# Altium footprint library CommonPcb.PcbLib: 194 footprints (part 3 of 13)
Each footprint in its own frame and in the unit in brackets; x right, y up, seen from the top. Pads: shape width x height; smd on the part's side, far side on the other; paste and mask are expansions set on the pad; w line width, h text height; cw(c..) or ccw(c..) is an arc to the next point about the centre after c.
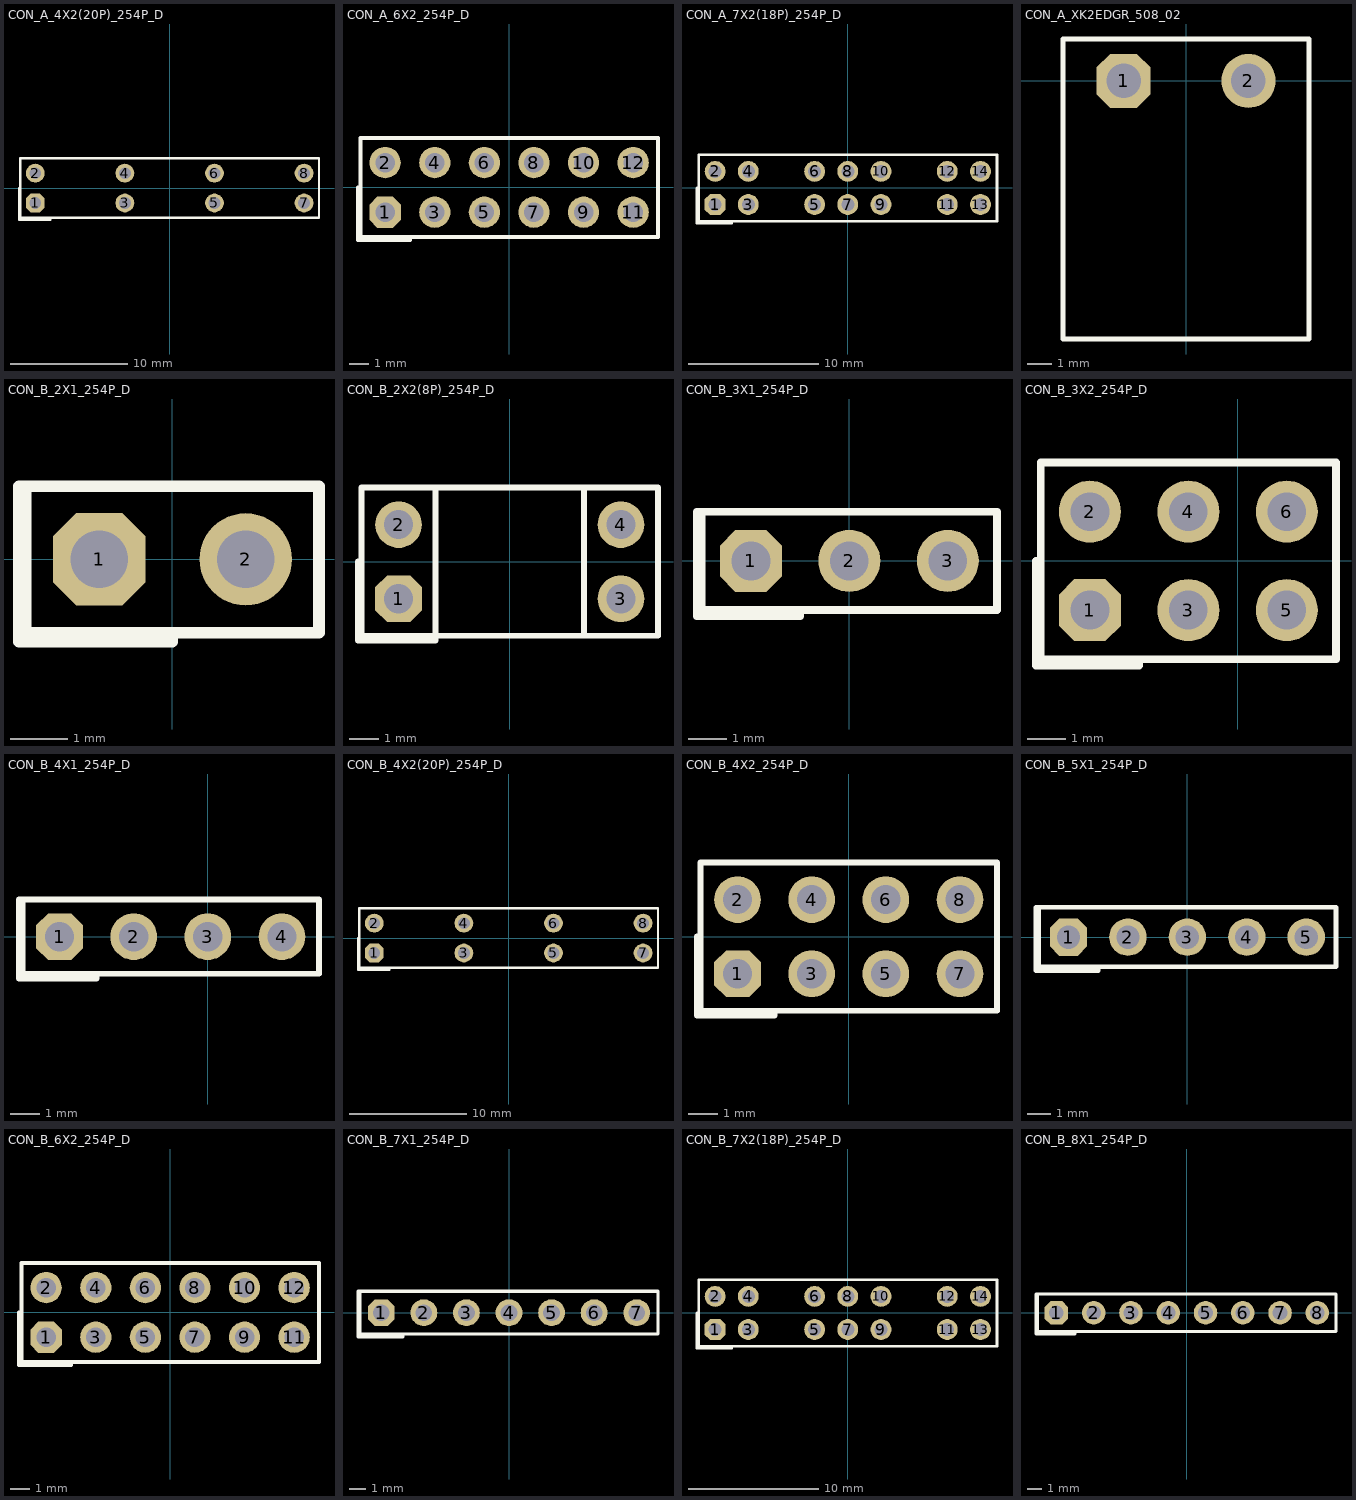
[diagram p2: the footprints below, top view; thin cyan lines are the x and y axes]

## CON_A_4X2(20P)_254P_D [mm] "Audia Series 460 25"
pads (8):
  oct 1.6x1.6 hole 1 mask+0.1: 1(-11.43,-1.27)
  round 1.6 hole 1 mask+0.1: 2(-11.43,1.27) 3(-3.81,-1.27) 4(-3.81,1.27) 5(3.81,-1.27) 6(3.81,1.27) 7(11.43,-1.27) 8(11.43,1.27)
Top Overlay:
  lines w0.2: -12.7,0 -12.82,0 -12.82,-2.54 -12.82,-2.7 -10.16,-2.7 -10.16,-2.54 ; -12.7,-2.54 12.7,-2.54 12.7,2.54 -12.7,2.54 -12.7,-2.54
3D body: height 5.7, standoff 0, extent -12.7,-2.54 12.7,2.54

## CON_A_6X2_254P_D [mm] "Audia Series 460 25"
pads (12):
  oct 1.6x1.6 hole 1 mask+0.1: 1(-6.35,-1.27)
  round 1.6 hole 1 mask+0.1: 2(-6.35,1.27) 3(-3.81,-1.27) 4(-3.81,1.27) 5(-1.27,-1.27) 6(-1.27,1.27) 7(1.27,-1.27) 8(1.27,1.27) 9(3.81,-1.27) 10(3.81,1.27) 11(6.35,-1.27) 12(6.35,1.27)
Top Overlay:
  lines w0.2: -7.62,0 -7.74,0 -7.74,-2.54 -7.74,-2.7 -5.08,-2.7 -5.08,-2.54 ; -7.62,-2.54 -7.62,2.54 7.62,2.54 7.62,-2.54 -7.62,-2.54
3D body: height 5.7, standoff 0, extent -7.62,-2.54 7.62,2.54

## CON_A_7X2(18P)_254P_D [mm] "Audia Series 460 25"
pads (14):
  oct 1.6x1.6 hole 1 mask+0.1: 1(-10.16,-1.27)
  round 1.6 hole 1 mask+0.1: 2(-10.16,1.27) 3(-7.62,-1.27) 4(-7.62,1.27) 5(-2.54,-1.27) 6(-2.54,1.27) 7(0,-1.27) 8(0,1.27) 9(2.54,-1.27) 10(2.54,1.27) 11(7.62,-1.27) 12(7.62,1.27) 13(10.16,-1.27) 14(10.16,1.27)
Top Overlay:
  lines w0.2: -11.43,0 -11.55,0 -11.55,-2.54 -11.55,-2.7 -8.89,-2.7 -8.89,-2.54 ; -11.43,-2.54 11.43,-2.54 11.43,2.54 -11.43,2.54 -11.43,-2.54
3D body: height 0, standoff 0, extent -11.429,-2.539 11.429,2.539

## CON_A_XK2EDGR_508_02 [mm] "XK2EDGR-5.08-02"
pads (2):
  oct 2.2x2.2 hole 1.4 mask+0.1: 1(-2.54,0)
  round 2.2 hole 1.4 mask+0.1: 2(2.54,0)
Top Overlay:
  lines w0.2: -5,-10.5 -5,1.7 5,1.7 5,-10.5 -5,-10.5
3D body: height 0, standoff 0, extent -4.999,-10.499 4.999,1.699

## CON_B_2X1_254P_D [mm] "Audia Series 460 25"
pads (2):
  oct 1.6x1.6 hole 1 mask+0.1: 1(-1.27,0)
  round 1.6 hole 1 mask+0.1: 2(1.27,0)
Top Overlay:
  lines w0.2: 0,-1.27 0,-1.43 -2.66,-1.43 -2.66,-1.27 -2.66,1.27 -2.54,1.27 ; -2.54,1.27 -2.54,-1.27 2.54,-1.27 2.54,1.27 -2.54,1.27
3D body: height 0, standoff 0, extent -2.539,-1.27 2.54,1.27

## CON_B_2X2(8P)_254P_D [mm] "Audia Series 47Y 25"
pads (4):
  oct 1.6x1.6 hole 1 mask+0.1: 1(-3.81,-1.27)
  round 1.6 hole 1 mask+0.1: 2(-3.81,1.27) 3(3.81,-1.27) 4(3.81,1.27)
Top Overlay:
  lines w0.2: -5.08,0 -5.2,0 -5.2,-2.54 -5.2,-2.7 -2.54,-2.7 -2.54,-2.54 -2.54,2.54 ; 2.54,-2.54 2.54,2.54 ; -5.08,-2.54 5.08,-2.54 5.08,2.54 -5.08,2.54 -5.08,-2.54
3D body: height 5.7, standoff 0, extent -5.08,-2.54 5.08,2.54

## CON_B_3X1_254P_D [mm] "Audia Series 460 25"
pads (3):
  oct 1.6x1.6 hole 1 mask+0.1: 1(-2.54,0)
  round 1.6 hole 1 mask+0.1: 2(0,0) 3(2.54,0)
Top Overlay:
  lines w0.2: -1.27,-1.27 -1.27,-1.43 -3.93,-1.43 -3.93,-1.27 -3.93,1.27 -3.81,1.27 ; -3.81,1.27 -3.81,-1.27 3.81,-1.27 3.81,1.27 -3.81,1.27
3D body: height 0, standoff 0, extent -3.809,-1.27 3.81,1.27

## CON_B_3X2_254P_D [mm] "Audia Series 47Y 25"
pads (6):
  oct 1.6x1.6 hole 1 mask+0.1: 1(-3.81,-1.27)
  round 1.6 hole 1 mask+0.1: 2(-3.81,1.27) 3(-1.27,-1.27) 4(-1.27,1.27) 5(1.27,-1.27) 6(1.27,1.27)
Top Overlay:
  lines w0.2: -5.08,0 -5.2,0 -5.2,-2.54 -5.2,-2.7 -2.54,-2.7 -2.54,-2.54 ; -5.08,-2.54 2.54,-2.54 2.54,2.54 -5.08,2.54 -5.08,-2.54
3D body: height 5.7, standoff 0, extent -5.08,-2.54 2.54,2.54

## CON_B_4X1_254P_D [mm] "Audia Series 47Y 25"
pads (4):
  oct 1.6x1.6 hole 1 mask+0.1: 1(-5.08,0)
  round 1.6 hole 1 mask+0.1: 2(-2.54,0) 3(0,0) 4(2.54,0)
Top Overlay:
  lines w0.2: -3.81,-1.27 -3.81,-1.43 -6.47,-1.43 -6.47,-1.27 -6.47,1.27 -6.35,1.27 ; -6.35,1.27 3.81,1.27 3.81,-1.27 -6.35,-1.27 -6.35,1.27
3D body: height 0, standoff 0, extent -6.349,-1.27 3.81,1.27

## CON_B_4X2(20P)_254P_D [mm] "Audia Series 47Y 25"
pads (8):
  oct 1.6x1.6 hole 1 mask+0.1: 1(-11.43,-1.27)
  round 1.6 hole 1 mask+0.1: 2(-11.43,1.27) 3(-3.81,-1.27) 4(-3.81,1.27) 5(3.81,-1.27) 6(3.81,1.27) 7(11.43,-1.27) 8(11.43,1.27)
Top Overlay:
  lines w0.2: -12.7,0 -12.82,0 -12.82,-2.54 -12.82,-2.7 -10.16,-2.7 -10.16,-2.54 ; -12.7,-2.54 12.7,-2.54 12.7,2.54 -12.7,2.54 -12.7,-2.54
3D body: height 5.7, standoff 0, extent -12.7,-2.54 12.7,2.54

## CON_B_4X2_254P_D [mm] "Audia Series 47Y 25"
pads (8):
  oct 1.6x1.6 hole 1 mask+0.1: 1(-3.81,-1.27)
  round 1.6 hole 1 mask+0.1: 2(-3.81,1.27) 3(-1.27,-1.27) 4(-1.27,1.27) 5(1.27,-1.27) 6(1.27,1.27) 7(3.81,-1.27) 8(3.81,1.27)
Top Overlay:
  lines w0.2: -5.08,0 -5.2,0 -5.2,-2.54 -5.2,-2.7 -2.54,-2.7 -2.54,-2.54 ; -5.08,-2.54 5.08,-2.54 5.08,2.54 -5.08,2.54 -5.08,-2.54
3D body: height 5.7, standoff 0, extent -5.08,-2.54 5.08,2.54

## CON_B_5X1_254P_D [mm] "Audia Series 47Y 25"
pads (5):
  oct 1.6x1.6 hole 1 mask+0.1: 1(-5.08,0)
  round 1.6 hole 1 mask+0.1: 2(-2.54,0) 3(0,0) 4(2.54,0) 5(5.08,0)
Top Overlay:
  lines w0.2: -3.81,-1.27 -3.81,-1.43 -6.47,-1.43 -6.47,-1.27 -6.47,1.27 -6.35,1.27 ; -6.35,1.27 -6.35,-1.27 6.35,-1.27 6.35,1.27 -6.35,1.27
3D body: height 0, standoff 0, extent -6.349,-1.269 6.349,1.269

## CON_B_6X2_254P_D [mm] "Audia Series 47Y 25"
pads (12):
  oct 1.6x1.6 hole 1 mask+0.1: 1(-6.35,-1.27)
  round 1.6 hole 1 mask+0.1: 2(-6.35,1.27) 3(-3.81,-1.27) 4(-3.81,1.27) 5(-1.27,-1.27) 6(-1.27,1.27) 7(1.27,-1.27) 8(1.27,1.27) 9(3.81,-1.27) 10(3.81,1.27) 11(6.35,-1.27) 12(6.35,1.27)
Top Overlay:
  lines w0.2: -7.62,0 -7.74,0 -7.74,-2.54 -7.74,-2.7 -5.08,-2.7 -5.08,-2.54 ; -7.62,-2.54 7.62,-2.54 7.62,2.54 -7.62,2.54 -7.62,-2.54
3D body: height 5.7, standoff 0, extent -7.62,-2.54 7.62,2.54

## CON_B_7X1_254P_D [mm] "Audia Series 47Y 25"
pads (7):
  oct 1.6x1.6 hole 1 mask+0.1: 1(-7.62,0)
  round 1.6 hole 1 mask+0.1: 2(-5.08,0) 3(-2.54,0) 4(0,0) 5(2.54,0) 6(5.08,0) 7(7.62,0)
Top Overlay:
  lines w0.2: -6.35,-1.27 -6.35,-1.43 -9.01,-1.43 -9.01,-1.27 -9.01,1.27 -8.89,1.27 ; -8.89,1.27 -8.89,-1.27 8.89,-1.27 8.89,1.27 -8.89,1.27
3D body: height 0, standoff 0, extent -8.889,-1.269 8.889,1.269

## CON_B_7X2(18P)_254P_D [mm] "Audia Series 47Y 25"
pads (14):
  oct 1.6x1.6 hole 1 mask+0.1: 1(-10.16,-1.27)
  round 1.6 hole 1 mask+0.1: 2(-10.16,1.27) 3(-7.62,-1.27) 4(-7.62,1.27) 5(-2.54,-1.27) 6(-2.54,1.27) 7(0,-1.27) 8(0,1.27) 9(2.54,-1.27) 10(2.54,1.27) 11(7.62,-1.27) 12(7.62,1.27) 13(10.16,-1.27) 14(10.16,1.27)
Top Overlay:
  lines w0.2: -11.43,0 -11.55,0 -11.55,-2.54 -11.55,-2.7 -8.89,-2.7 -8.89,-2.54 ; -11.43,-2.54 11.43,-2.54 11.43,2.54 -11.43,2.54 -11.43,-2.54
3D body: height 0, standoff 0, extent -11.429,-2.539 11.429,2.539

## CON_B_8X1_254P_D [mm] "Audia Series 47Y 25"
pads (8):
  oct 1.6x1.6 hole 1 mask+0.1: 1(-8.89,0)
  round 1.6 hole 1 mask+0.1: 2(-6.35,0) 3(-3.81,0) 4(-1.27,0) 5(1.27,0) 6(3.81,0) 7(6.35,0) 8(8.89,0)
Top Overlay:
  lines w0.2: -7.62,-1.27 -7.62,-1.43 -10.28,-1.43 -10.28,-1.27 -10.28,1.27 -10.16,1.27 ; -10.16,1.27 10.16,1.27 10.16,-1.27 -10.16,-1.27 -10.16,1.27
3D body: height 0, standoff 0, extent -10.159,-1.27 10.16,1.27